# Altium footprint library lab6More.PcbLib: 2 footprints
Each footprint in its own frame and in the unit in brackets; x right, y up, seen from the top. Pads: shape width x height; smd on the part's side, far side on the other; paste and mask are expansions set on the pad; w line width, h text height; cw(c..) or ccw(c..) is an arc to the next point about the centre after c.
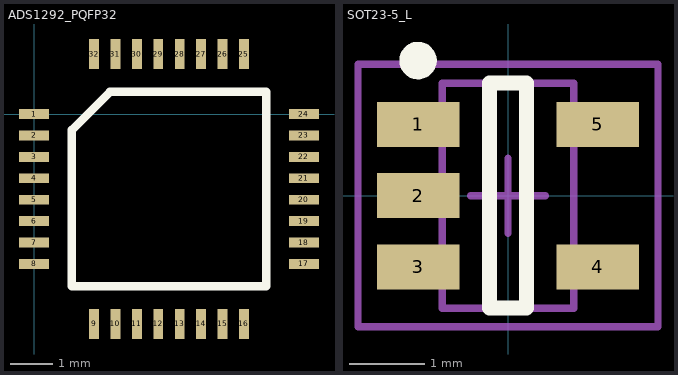
[diagram p0: the footprints below, top view; thin cyan lines are the x and y axes]

## ADS1292_PQFP32 [mm]
pads (32):
  rect 0.7x0.23 smd: 1(0,0) 2(0,-0.5) 3(0,-1) 4(0,-1.5) 5(0,-2) 6(0,-2.5) 7(0,-3) 8(0,-3.5) 17(6.3,-3.5) 18(6.3,-3) 19(6.3,-2.5) 20(6.3,-2) 21(6.3,-1.5) 22(6.3,-1) 23(6.3,-0.5) 24(6.3,0)
  rect 0.23x0.7 smd: 9(1.4,-4.9) 10(1.9,-4.9) 11(2.4,-4.9) 12(2.9,-4.9) 13(3.4,-4.9) 14(3.9,-4.9) 15(4.4,-4.9) 16(4.9,-4.9) 25(4.9,1.4) 26(4.4,1.4) 27(3.9,1.4) 28(3.4,1.4) 29(2.9,1.4) 30(2.4,1.4) 31(1.9,1.4) 32(1.4,1.4)
Top Overlay:
  lines w0.2: 0.885,-4.015 0.885,-0.37 1.77,0.515 5.415,0.515 5.415,-4.015 0.885,-4.015

## SOT23-5_L [mm] "SOT23, 5-Leads, Body 3.0x3.0mm (max), Pitch 0.95mm, IPC Medium Density"
height 1.45
pads (5):
  rect 1.1x0.6 smd: 1(-1.2,0.95) 2(-1.2,0) 3(-1.2,-0.95) 4(1.2,-0.95) 5(1.2,0.95)
Top Overlay:
  circle w0.25: c-1.2,1.8 r0.125
  lines w0.2: -0.25,-1.5 -0.25,1.5 0.25,1.5 0.25,-1.5 -0.25,-1.5
Mechanical 13:
  lines w0.1: -0.875,-1.5 0.875,-1.5 0.875,1.5 -0.875,1.5 -0.875,-1.5
Mechanical 15:
  lines w0.1: -0.5,0 0.5,0 ; 0,-0.5 0,0.5 ; -2,-1.75 2,-1.75 2,1.75 -2,1.75 -2,-1.75
3D body: height 1.45, standoff 0, extent -0.875,-1.5 0.875,1.5